# Altium footprint library Motion Controller.PcbLib: 208 footprints (part 13 of 13)
Each footprint in its own frame and in the unit in brackets; x right, y up, seen from the top. Pads: shape width x height; smd on the part's side, far side on the other; paste and mask are expansions set on the pad; w line width, h text height; cw(c..) or ccw(c..) is an arc to the next point about the centre after c.
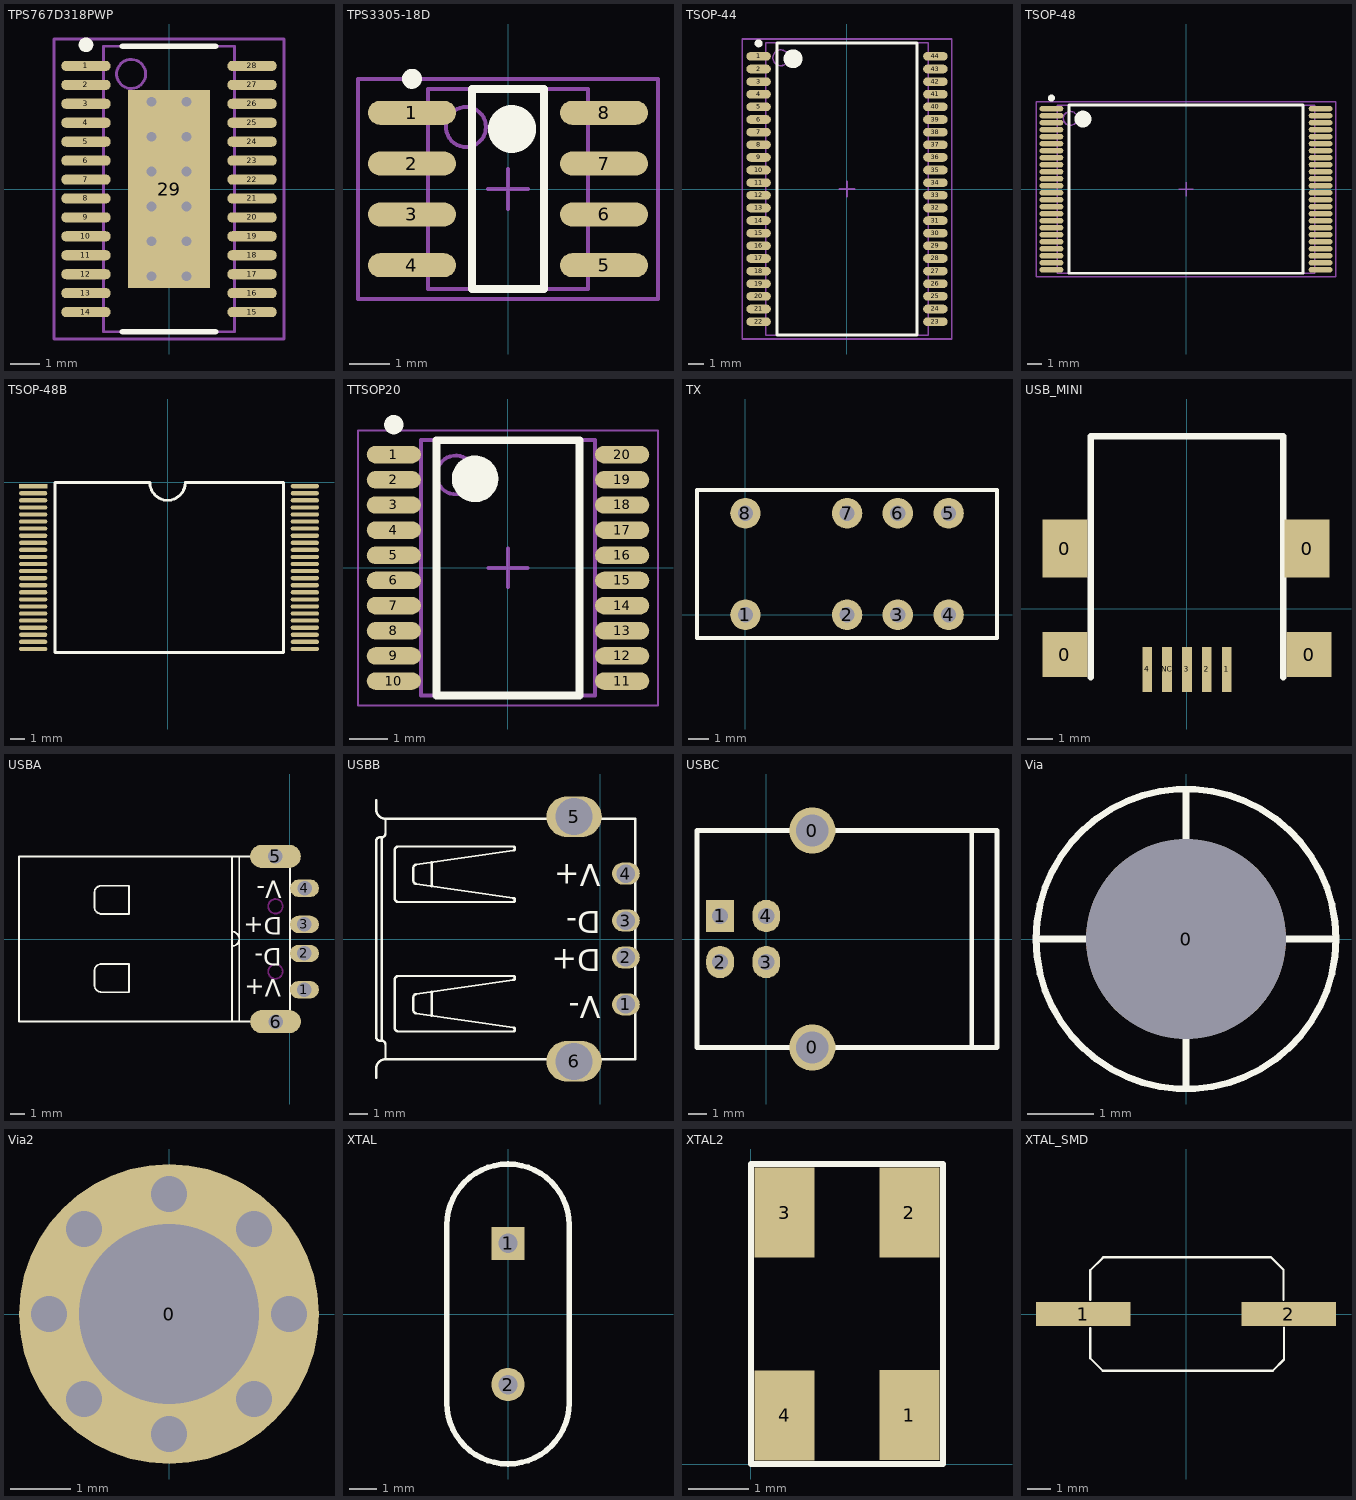
[diagram p12: the footprints below, top view; thin cyan lines are the x and y axes]

## TPS767D318PWP [mm] "TSOP, 28-Leads, Body 9.8x4.5mm (max), Pitch 0.65mm, IPC Medium Density"
height 1.2
pads (29):
  oval 1.7x0.35 smd: 1(-2.85,4.225) 2(-2.85,3.575) 3(-2.85,2.925) 4(-2.85,2.275) 5(-2.85,1.625) 6(-2.85,0.975) 7(-2.85,0.325) 8(-2.85,-0.325) 9(-2.85,-0.975) 10(-2.85,-1.625) 11(-2.85,-2.275) 12(-2.85,-2.925) 13(-2.85,-3.575) 14(-2.85,-4.225) 15(2.85,-4.225) 16(2.85,-3.575) 17(2.85,-2.925) 18(2.85,-2.275) 19(2.85,-1.625) 20(2.85,-0.975) 21(2.85,-0.325) 22(2.85,0.325) 23(2.85,0.975) 24(2.85,1.625) 25(2.85,2.275) 26(2.85,2.925) 27(2.85,3.575) 28(2.85,4.225)
  rect 2.8x6.8 smd: 29(0,0)
via -0.6,3 diameter 0.66 hole 0.33
via 0.6,3 diameter 0.66 hole 0.33
via -0.6,1.8 diameter 0.66 hole 0.33
via 0.6,1.8 diameter 0.66 hole 0.33
via -0.6,0.6 diameter 0.66 hole 0.33
via 0.6,0.6 diameter 0.66 hole 0.33
via -0.6,-0.6 diameter 0.66 hole 0.33
via 0.6,-0.6 diameter 0.66 hole 0.33
via -0.6,-1.8 diameter 0.66 hole 0.33
via 0.6,-1.8 diameter 0.66 hole 0.33
via -0.6,-3 diameter 0.66 hole 0.33
via 0.6,-3 diameter 0.66 hole 0.33
Top Overlay:
  circle w0.25: c-2.85,4.95 r0.125
  lines w0.2: -1.6,-4.9 1.6,-4.9 ; -1.6,4.9 1.6,4.9
Mechanical 13:
  circle w0.1: c-1.3,3.95 r0.5
  lines w0.1: -2.25,-4.9 -2.25,4.9 2.25,4.9 2.25,-4.9 -2.25,-4.9
Mechanical 15:
  lines w0.1: -0.5,0 0.5,0 ; 0,-0.5 0,0.5 ; -3.95,-5.15 -3.95,5.15 3.95,5.15 3.95,-5.15 -3.95,-5.15
3D body: height 1.2, standoff 0.05, extent -2.25,-4.9 2.25,4.9

## TPS3305-18D [mm] "SOIC, 8-Leads, Body 5.0x4.0mm (max), Pitch 1.27mm, IPC Medium Density"
height 1.75
pads (8):
  oval 2.2x0.6 smd: 1(-2.4,1.905) 2(-2.4,0.635) 3(-2.4,-0.635) 4(-2.4,-1.905) 5(2.4,-1.905) 6(2.4,-0.635) 7(2.4,0.635) 8(2.4,1.905)
Top Overlay:
  circle w0.25: c-2.4,2.755 r0.125
  circle w0.6: c0.1,1.5 r0.3
  lines w0.2: -0.9,-2.5 -0.9,2.5 0.9,2.5 0.9,-2.5 -0.9,-2.5
Mechanical 13:
  circle w0.1: c-1.05,1.55 r0.5
  lines w0.1: -2,-2.5 -2,2.5 2,2.5 2,-2.5 -2,-2.5
Mechanical 15:
  lines w0.1: -0.5,0 0.5,0 ; 0,-0.5 0,0.5 ; -3.75,-2.75 -3.75,2.75 3.75,2.75 3.75,-2.75 -3.75,-2.75
3D body: height 1.75, standoff 0.1, extent -2,-2.5 2,2.5

## TSOP-44 [mm]
height 1.2
pads (44):
  oval 1.55x0.55 smd: 1(-5.6,8.4) 2(-5.6,7.6) 3(-5.6,6.8) 4(-5.6,6) 5(-5.6,5.2) 6(-5.6,4.4) 7(-5.6,3.6) 8(-5.6,2.8) 9(-5.6,2) 10(-5.6,1.2) 11(-5.6,0.4) 12(-5.6,-0.4) 13(-5.6,-1.2) 14(-5.6,-2) 15(-5.6,-2.8) 16(-5.6,-3.6) 17(-5.6,-4.4) 18(-5.6,-5.2) 19(-5.6,-6) 20(-5.6,-6.8) 21(-5.6,-7.6) 22(-5.6,-8.4) 23(5.6,-8.4) 24(5.6,-7.6) 25(5.6,-6.8) 26(5.6,-6) 27(5.6,-5.2) 28(5.6,-4.4) 29(5.6,-3.6) 30(5.6,-2.8) 31(5.6,-2) 32(5.6,-1.2) 33(5.6,-0.4) 34(5.6,0.4) 35(5.6,1.2) 36(5.6,2) 37(5.6,2.8) 38(5.6,3.6) 39(5.6,4.4) 40(5.6,5.2) 41(5.6,6) 42(5.6,6.8) 43(5.6,7.6) 44(5.6,8.4)
Top Overlay:
  circle w0.6: c-3.425,8.25 r0.3
  circle w0.25: c-5.6,9.225 r0.125
  lines w0.2: -4.425,-9.25 4.425,-9.25 4.425,9.25 -4.425,9.25 -4.425,-9.25
Mechanical 13:
  circle w0.1: c-4.195,8.31 r0.5
  lines w0.1: -5.145,-9.26 5.145,-9.26 5.145,9.26 -5.145,9.26 -5.145,-9.26
Mechanical 15:
  lines w0.1: -0.5,0 0.5,0 ; 0,-0.5 0,0.5 ; -6.625,-9.5 6.625,-9.5 6.625,9.5 -6.625,9.5 -6.625,-9.5
3D body: height 1.2, standoff 0.05, extent -5.145,-9.26 5.145,9.26

## TSOP-48 [mm] "TSSOP, 48-Leads, Body 12.0x18.4mm (max), Pitch 0.50mm, IPC Medium Density"
height 1.1
pads (48):
  oval 1.7x0.4 smd: 1(-9.6,5.75) 2(-9.6,5.25) 3(-9.6,4.75) 4(-9.6,4.25) 5(-9.6,3.75) 6(-9.6,3.25) 7(-9.6,2.75) 8(-9.6,2.25) 9(-9.6,1.75) 10(-9.6,1.25) 11(-9.6,0.75) 12(-9.6,0.25) 13(-9.6,-0.25) 14(-9.6,-0.75) 15(-9.6,-1.25) 16(-9.6,-1.75) 17(-9.6,-2.25) 18(-9.6,-2.75) 19(-9.6,-3.25) 20(-9.6,-3.75) 21(-9.6,-4.25) 22(-9.6,-4.75) 23(-9.6,-5.25) 24(-9.6,-5.75) 25(9.6,-5.75) 26(9.6,-5.25) 27(9.6,-4.75) 28(9.6,-4.25) 29(9.6,-3.75) 30(9.6,-3.25) 31(9.6,-2.75) 32(9.6,-2.25) 33(9.6,-1.75) 34(9.6,-1.25) 35(9.6,-0.75) 36(9.6,-0.25) 37(9.6,0.25) 38(9.6,0.75) 39(9.6,1.25) 40(9.6,1.75) 41(9.6,2.25) 42(9.6,2.75) 43(9.6,3.25) 44(9.6,3.75) 45(9.6,4.25) 46(9.6,4.75) 47(9.6,5.25) 48(9.6,5.75)
Top Overlay:
  circle w0.25: c-9.6,6.5 r0.125
  circle w0.6: c-7.35,5 r0.3
  lines w0.2: -8.35,-6 -8.35,6 8.35,6 8.35,-6 -8.35,-6
Mechanical 13:
  circle w0.1: c-8.25,5.05 r0.5
  lines w0.1: -9.2,-6 -9.2,6 9.2,6 9.2,-6 -9.2,-6
Mechanical 15:
  lines w0.1: -0.5,0 0.5,0 ; 0,-0.5 0,0.5 ; -10.7,-6.25 -10.7,6.25 10.7,6.25 10.7,-6.25 -10.7,-6.25
3D body: height 1.1, standoff 0.1, extent -9.2,-6 9.2,6

## TSOP-48B [mm]
pads (48):
  rect 2x0.3 smd: 1(-9.527,-0.275)
  oval 2x0.3 smd: 2(-9.527,-0.775) 3(-9.527,-1.275) 4(-9.527,-1.775) 5(-9.527,-2.275) 6(-9.527,-2.775) 7(-9.527,-3.275) 8(-9.527,-3.775) 9(-9.527,-4.275) 10(-9.527,-4.775) 11(-9.527,-5.275) 12(-9.527,-5.775) 13(-9.527,-6.275) 14(-9.527,-6.775) 15(-9.527,-7.275) 16(-9.527,-7.775) 17(-9.527,-8.275) 18(-9.527,-8.775) 19(-9.527,-9.275) 20(-9.527,-9.775) 21(-9.527,-10.275) 22(-9.527,-10.775) 23(-9.527,-11.275) 24(-9.527,-11.775) 25(9.673,-11.775) 26(9.673,-11.275) 27(9.673,-10.775) 28(9.673,-10.275) 29(9.673,-9.775) 30(9.673,-9.275) 31(9.673,-8.775) 32(9.673,-8.275) 33(9.673,-7.775) 34(9.673,-7.275) 35(9.673,-6.775) 36(9.673,-6.275) 37(9.673,-5.775) 38(9.673,-5.275) 39(9.673,-4.775) 40(9.673,-4.275) 41(9.673,-3.775) 42(9.673,-3.275) 43(9.673,-2.775) 44(9.673,-2.275) 45(9.673,-1.775) 46(9.673,-1.275) 47(9.673,-0.775) 48(9.673,-0.275)
Top Overlay:
  lines w0.2: -7.977,-12.025 -7.977,-0.025 -1.277,-0.025 ccw(c-0.027,-0.025) 1.223,-0.025 8.173,-0.025 8.173,-12.025 -7.977,-12.025

## TTSOP20 [mm]
height 1.1
pads (20):
  oval 1.4x0.45 smd: 1(-2.95,2.925) 2(-2.95,2.275) 3(-2.95,1.625) 4(-2.95,0.975) 5(-2.95,0.325) 6(-2.95,-0.325) 7(-2.95,-0.975) 8(-2.95,-1.625) 9(-2.95,-2.275) 10(-2.95,-2.925) 11(2.95,-2.925) 12(2.95,-2.275) 13(2.95,-1.625) 14(2.95,-0.975) 15(2.95,-0.325) 16(2.95,0.325) 17(2.95,0.975) 18(2.95,1.625) 19(2.95,2.275) 20(2.95,2.925)
Top Overlay:
  circle w0.6: c-0.85,2.3 r0.3
  circle w0.25: c-2.95,3.7 r0.125
  lines w0.2: -1.85,-3.3 1.85,-3.3 1.85,3.3 -1.85,3.3 -1.85,-3.3
Mechanical 13:
  circle w0.1: c-1.35,2.4 r0.5
  lines w0.1: -2.25,-3.3 2.25,-3.3 2.25,3.3 -2.25,3.3 -2.25,-3.3
Mechanical 15:
  lines w0.05: -3.875,-3.55 3.875,-3.55 3.875,3.55 -3.875,3.55 -3.875,-3.55
  lines w0.1: -0.5,0 0.5,0 ; 0,-0.5 0,0.5
3D body: height 1.1, standoff 0.15, extent -2.25,-3.3 2.25,3.3

## TX [mil]
pads (8):
  round 60 hole 30: 1(0,0) 2(200,0) 3(300,0) 4(400,0) 5(400,200) 6(300,200) 7(200,200) 8(0,200)
Top Overlay:
  lines w7.87: -95.47,245.67 495.28,245.67 495.28,-45.67 -95.28,-45.67 -95.28,245.67

## USB_MINI [mil]
pads (9):
  rect 70x70 smd: 0(-190,-71) 0(190,-71)
  rect 70x90 smd: 0(-190,94) 0(187,94)
  rect 15x70 smd: 1(62,-94) 2(31,-94) 3(0,-94) 4(-62,-94) NC(-31,-94)
Top Overlay:
  lines w10: -150,-106 -150,269 150,269 150,-106

## USBA [mm]
pads (6):
  oval 2x1.2 hole 1: 1(0.995,-3.5) 2(0.999,-0.997) 3(0.999,1.007) 4(1.002,3.5)
  oval 3.5x1.6 hole 1: 5(-1.002,5.698) 6(-0.999,-5.698)
Top Overlay:
  lines w0.127: -4.002,-5.695 -4.002,5.705 ; -4.002,-0.495 ccw(c-4.002,0.005) -4.002,0.505 ; -3.502,-5.695 -3.502,5.705 ; -2.402,-5.695 -18.702,-5.695 -18.702,5.705 -2.402,5.705 ; -0.002,-5.205 -0.002,5.215 ; -13.502,-3.17 ccw(c-13.002,-3.17) -13.002,-3.67 -11.102,-3.67 -11.102,-1.72 -13.002,-1.72 ccw(c-13.002,-2.22) -13.502,-2.22 -13.502,-3.17 ; -13.502,2.23 ccw(c-13.002,2.23) -13.002,1.73 -11.102,1.73 -11.102,3.68 -13.002,3.68 ccw(c-13.002,3.18) -13.502,3.18 -13.502,2.23
  text "D+" at -0.547,1.512 h1.2
  text "V+" at -0.598,-2.788 h1.2
  text "V-" at -0.56,4.031 h1.2
  text "D-" at -0.56,-0.625 h1.2
Keep-Out Layer:
  circle w0.127: c-1.002,-2.245 r0.5
  circle w0.127: c-1.002,2.255 r0.5
  lines w0.127: -1.902,-6.195 cw(c-1.902,-5.695) -1.902,-5.195 -0.102,-5.195 cw(c-0.102,-5.695) -0.102,-6.195 -1.902,-6.195 ; -1.902,5.205 cw(c-1.902,5.705) -1.902,6.205 -0.102,6.205 cw(c-0.102,5.705) -0.102,5.205 -1.902,5.205

## USBB [mm]
pads (6):
  oval 1.5x1.2 hole 1: 1(1.4,-3.54) 2(1.4,-1) 3(1.4,1) 4(1.4,3.54)
  oval 3x2.2 hole 2: 5(-1.4,6.61) 6(-1.4,-6.61)
Top Overlay:
  lines w0.127: -12.1,-7.5 -12.1,-7 cw(c-11.6,-7) -11.6,-6.5 ; -12.1,7.5 -12.1,7 ccw(c-11.6,7) -11.6,6.5 ; -9.1,-4.15 -9.1,-2.849 ; -9.1,2.85 -9.1,4.151 ; -2.9,-6.5 -11.6,-6.5 ; -2.9,6.5 -11.6,6.5 ; 0.1,-6.5 1.9,-6.5 1.9,6.5 0.1,6.5 ; -11.8,-5.5 cw(c-11.8,-5.7) -11.6,-5.7 -11.6,-6.5 ; -11.8,-5.5 -11.8,5.5 ; -11.8,-5.5 -11.9,-5.5 cw(c-11.9,-5.3) -12.1,-5.3 -12.1,5.3 cw(c-11.9,5.3) -11.9,5.5 -11.8,5.5 ; -11.8,5.5 ccw(c-11.8,5.7) -11.6,5.7 -11.6,6.5 ; -11.1,-4.8 ccw(c-10.9,-4.8) -10.9,-5 -4.7,-5 ccw(c-4.7,-4.9) -4.6,-4.9 -4.6,-4.887 ccw(c-4.7,-4.887) -4.686,-4.788 -9.936,-4.03 cw(c-9.9,-3.833) -10.1,-3.833 -10.1,-3.167 cw(c-9.9,-3.167) -9.936,-2.97 -4.686,-2.212 ccw(c-4.7,-2.113) -4.6,-2.113 -4.6,-2.1 ccw(c-4.7,-2.1) -4.7,-2 -10.9,-2 ccw(c-10.9,-2.2) -11.1,-2.2 -11.1,-4.8 ; -11.1,2.2 ccw(c-10.9,2.2) -10.9,2 -4.7,2 ccw(c-4.7,2.1) -4.6,2.1 -4.6,2.113 ccw(c-4.7,2.113) -4.686,2.212 -9.936,2.97 cw(c-9.9,3.167) -10.1,3.167 -10.1,3.833 cw(c-9.9,3.833) -9.936,4.03 -4.686,4.788 ccw(c-4.7,4.887) -4.6,4.887 -4.6,4.9 ccw(c-4.7,4.9) -4.7,5 -10.9,5 ccw(c-10.9,4.8) -11.1,4.8 -11.1,2.2
  text "D-" at 0.035,1.489 h1.2
  text "D+" at 0.035,-0.543 h1.2
  text "V-" at 0.035,-3.083 h1.2
  text "V+" at 0.035,4.029 h1.2

## USBC [mil]
pads (6):
  round 100 hole 70: 0(100,-235) 0(100,235)
  rect 60x70 hole 35: 1(-100,50)
  oval 60x70 hole 35: 2(-100,-50) 3(0,-50) 4(0,50)
Top Overlay:
  lines w10: 70,-235 -150,-235 -150,235 70,235 ; 125,235 500,235 500,-235 130,-235 ; 445,-235 445,235

## Via [mm]
pads (1):
  round 3 hole 3 unplated: 0(0,0)
Top Overlay:
  circle w0.1: c0,0 r2.25
  lines w0.1: -2.235,0 0,0 ; 0,-2.21 0,0 ; 0,2.235 0,0 ; 2.25,0 0,0

## Via2 [mm]
pads (1):
  round 5 hole 3 unplated: 0(0,0)
via -1.414,1.414 diameter 0.6 hole 0.6
via -2,0 diameter 0.6 hole 0.6
via -1.414,-1.414 diameter 0.6 hole 0.6
via 0,-2 diameter 0.6 hole 0.6
via 1.414,-1.414 diameter 0.6 hole 0.6
via 2,0 diameter 0.6 hole 0.6
via 1.414,1.414 diameter 0.6 hole 0.6
via 0,2 diameter 0.6 hole 0.6

## XTAL [mm]
pads (2):
  rect 1.2x1.2 hole 0.7: 1(0,2.54)
  round 1.2 hole 0.7: 2(0,-2.54)
Top Overlay:
  lines w0.2: -2.2,-3.2 ccw(c0,-3.2) 0,-5.4 ccw(c0,-3.2) 2.2,-3.2 2.2,3.2 ccw(c0,3.2) 0,5.4 ccw(c0,3.2) -2.2,3.2 -2.2,-3.2

## XTAL2 [mm]
pads (4):
  rect 1x1.5 smd: 1(2.642,0.813) 2(2.642,4.191) 3(0.559,4.191) 4(0.559,0.81)
Top Overlay:
  lines w0.1: 0,0 0,5 3.2,5 3.2,0 0,0

## XTAL_SMD [mm]
pads (2):
  rect 4x1 smd: 1(-4.35,0) 2(4.35,0)
Top Overlay:
  lines w0.1: -4.05,-0.6 -4.05,-1.875 -3.525,-2.4 3.675,-2.4 4.15,-1.925 4.15,-0.575 ; -4.05,0.6 -4.05,1.85 -3.525,2.375 ; -3.5,2.4 3.6,2.4 4.125,1.875 4.125,0.6